# EAGLE library part POT_ALPS_ALPHA (library wheat)
POT, STEREO DUAL FP ALPS RK27 ALPHA 12MM PCB
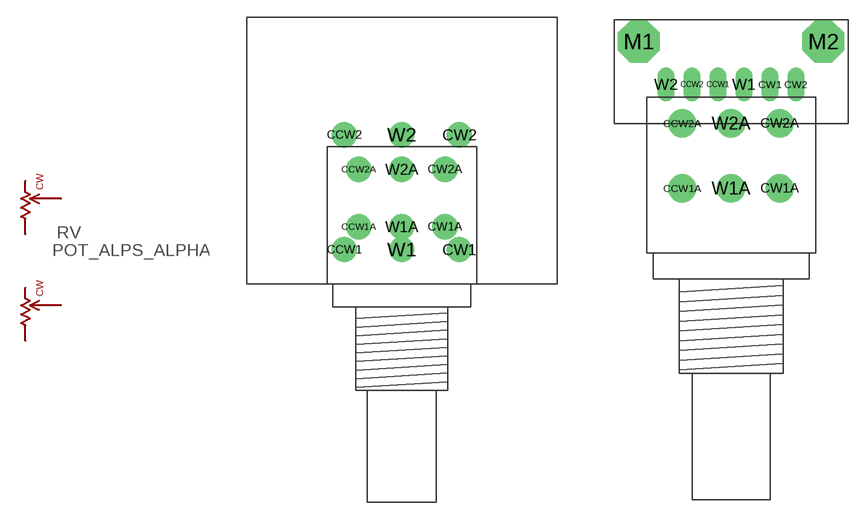
[diagram p55: symbol with the pads of POT_ALPS_ALPHA; footprints POT_ALPS_ALPHA, POT_RK12_ALPHA]

Designator prefix RV

## POT_ALPS_ALPHA  [POT_ALPS_ALPHA]
CCW1  CCW1  pas
CCW1A  CCW1A  pas
CCW2  CCW2  pas
CCW2A  CCW2A  pas
CW1  CW1  pas
CW1A  CW1A  pas
CW2  CW2  pas
CW2A  CW2A  pas
W1  W1  pas
W1A  W1A  pas
W2  W2  pas
W2A  W2A  pas

## POT_ALPS_ALPHA_RK12  [POT_RK12_ALPHA]
Pads as for POT_ALPS_ALPHA

## Footprint POT_ALPS_ALPHA (pad centres in mm)
pot, alps rk27 plus alpha 12mm
drill 1.27 pad 2.184: CCW1 -5,5; CCW1A -3.75,7; CCW2 -5,15; CCW2A -3.75,12; CW1 5,5; CW1A 3.75,7; CW2 5,15; CW2A 3.75,12; W1 0,5; W1A 0,7; W2 0,15; W2A 0,12

## Footprint POT_RK12_ALPHA (pad centres in mm)
drill 0.8 pad 1.27 long: CCW1 -1,15.001; CCW2 -3,15.001; CW1 3,15.001; CW2 5,15.001; W1 1,15.001; W2 -5,15.001
drill 1.27 pad 2.184: CCW1A -3.75,7.001; CCW2A -3.75,12.001; CW1A 3.75,7.001; CW2A 3.75,12.001; W1A 0,7.001; W2A 0,12.001
drill 2.2 octagon: M1 -7.1,18.3; M2 7.1,18.3